# Altium footprint library Fedor's_pcb.PcbLib: 174 footprints (part 5 of 14)
Each footprint in its own frame and in the unit in brackets; x right, y up, seen from the top. Pads: shape width x height; smd on the part's side, far side on the other; paste and mask are expansions set on the pad; w line width, h text height; cw(c..) or ccw(c..) is an arc to the next point about the centre after c.
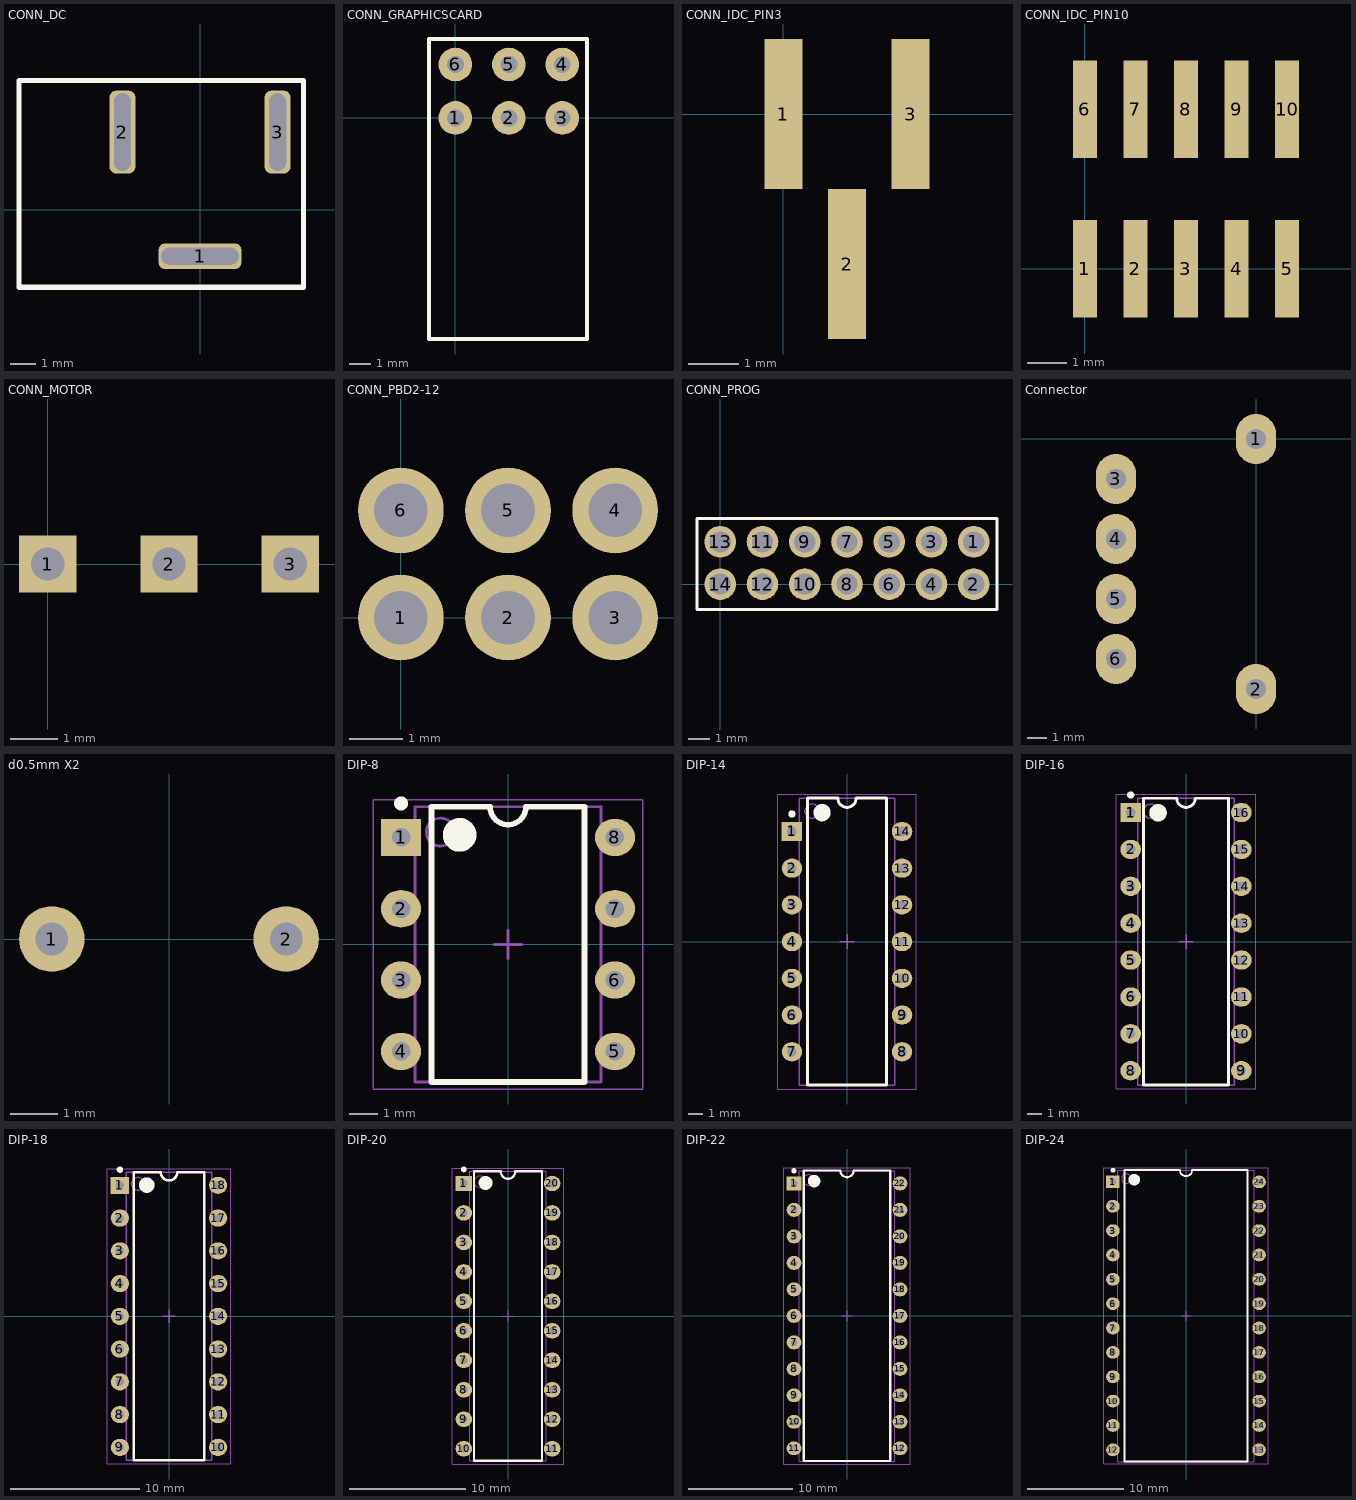
[diagram p4: the footprints below, top view; thin cyan lines are the x and y axes]

## CONN_DC [mm] "DJK-02A"
pads (3):
  rrect50% 3.2x1 hole 0.65 slot 3 at 0 deg mask+0.04: 1(0,-1.8)
  rrect50% 1x3.2 hole 0.65 slot 3 at 90 deg mask+0.04: 2(-3,3) 3(3,3)
Top Overlay:
  lines w0.2: -7,-3 4,-3 4,5 -7,5 -7,-3

## CONN_GRAPHICSCARD [mm]
pads (6):
  round 1.6 hole 0.8: 1(0,0) 2(2.54,0) 3(5.08,0) 4(5.08,2.54) 5(2.54,2.54) 6(0,2.54)
Top Overlay:
  lines w0.2: -1.25,-10.5 6.25,-10.5 6.25,3.75 -1.25,3.75 -1.25,-10.5

## CONN_IDC_PIN3 [mm]
pads (3):
  rect 0.76x3 smd paste-2539.97 mask+0.07: 1(0,0) 2(1.27,-3) 3(2.54,0)
3D body "DS1031-03-1_3P8BS41-3A.stp": height 6.5, standoff 0, extent -0.61,-4.4 3.2,1.3

## CONN_IDC_PIN10 [mm]
pads (10):
  rect 0.6x2.45 smd paste-2539.97 mask+0.07: 1(0,0) 2(1.27,0) 3(2.54,0) 4(3.81,0) 5(5.08,0) 6(0,4) 7(1.27,4) 8(2.54,4) 9(3.81,4) 10(5.08,4)
3D body "DS1031-08-2_5P8BS41-3A.stp": height 6.45, standoff -0.05, extent -0.575,-0.7 5.775,5

## CONN_MOTOR [mm]
pads (3):
  rect 1.2x1.2 hole 0.7 paste-2539.97 mask+0.07: 1(0,0) 2(2.54,0) 3(5.08,0)

## CONN_PBD2-12 [mm] "ds1026-05-2*6s8bv"
pads (6):
  round 1.6 hole 1: 1(0,0) 2(2,0) 3(4,0) 4(4,2) 5(2,2) 6(0,2)

## CONN_PROG [mm]
pads (14):
  round 1.5 hole 1 mask+0.07: 1(12,2) 2(12,0) 3(10,2) 4(10,0) 5(8,2) 6(8,0) 7(6,2) 8(6,0) 9(4,2) 10(4,0) 11(2,2) 12(2,0) 13(0,2) 14(0,0)
Top Overlay:
  lines w0.15: -1.1,-1.2 -1.1,3.1 13.1,3.1 13.1,-1.2 -1.1,-1.2

## Connector [mm]
pads (6):
  oval 2x2.5 hole 1: 1(0,0) 2(0,-12.5) 3(-7,-2) 4(-7,-5) 5(-7,-8) 6(-7,-11)

## d0.5mm X2 [mm]
pads (2):
  round 1.4 hole 0.7 paste-2539.97 mask+0.07: 1(-2.5,0) 2(2.5,0)
3D body: height 5, standoff -1, extent -3.2,-1.4 2.8,1.6

## DIP-8 [mm] "8-pin plastic DIP (DIP-8P-M02)"
height 4.36
pads (8):
  rect 1.42x1.32 hole 0.66: 1(-3.81,3.81)
  oval 1.42x1.32 hole 0.66: 2(-3.81,1.27) 3(-3.81,-1.27) 4(-3.81,-3.81) 5(3.81,-3.81) 6(3.81,-1.27) 7(3.81,1.27) 8(3.81,3.81)
Top Overlay:
  circle w0.25: c-3.81,5.02 r0.125
  circle w0.6: c-1.725,3.9 r0.3
  lines w0.2: -2.725,-4.9 -2.725,4.9 -0.635,4.9 ccw(c0,4.9) 0.635,4.9 2.725,4.9 2.725,-4.9 -2.725,-4.9
Mechanical 13:
  circle w0.1: c-2.41,4 r0.5
  lines w0.1: -3.31,-4.9 -3.31,4.9 3.31,4.9 3.31,-4.9 -3.31,-4.9
Mechanical 15:
  lines w0.05: -4.8,-5.15 -4.8,5.15 4.8,5.15 4.8,-5.15 -4.8,-5.15
  lines w0.1: -0.5,0 0.5,0 ; 0,-0.5 0,0.5
3D body: height 2.34, standoff 0, extent -3.909,3.43 -3.711,4.19
3D body: height 2.54, standoff 2.34, extent -3.909,3.43 -3.31,4.19
3D body: height 0, standoff -1.6, extent -3.909,3.546 -3.711,4.074
3D body: height 2.34, standoff 0, extent -3.909,0.89 -3.711,1.65
3D body: height 2.54, standoff 2.34, extent -3.909,0.89 -3.31,1.65
3D body: height 0, standoff -1.6, extent -3.909,1.006 -3.711,1.534
3D body: height 2.34, standoff 0, extent -3.909,-1.65 -3.711,-0.89
3D body: height 2.54, standoff 2.34, extent -3.909,-1.65 -3.31,-0.89
3D body: height 0, standoff -1.6, extent -3.909,-1.534 -3.711,-1.006
3D body: height 2.34, standoff 0, extent -3.909,-4.19 -3.711,-3.43
3D body: height 2.54, standoff 2.34, extent -3.909,-4.19 -3.31,-3.43
3D body: height 0, standoff -1.6, extent -3.909,-4.074 -3.711,-3.546
3D body: height 2.34, standoff 0, extent 3.711,-4.19 3.909,-3.43
3D body: height 2.54, standoff 2.34, extent 3.31,-4.19 3.909,-3.43
3D body: height 0, standoff -1.6, extent 3.711,-4.074 3.909,-3.546
3D body: height 2.34, standoff 0, extent 3.711,-1.65 3.909,-0.89
3D body: height 2.54, standoff 2.34, extent 3.31,-1.65 3.909,-0.89
3D body: height 0, standoff -1.6, extent 3.711,-1.534 3.909,-1.006
3D body: height 2.34, standoff 0, extent 3.711,0.89 3.909,1.65
3D body: height 2.54, standoff 2.34, extent 3.31,0.89 3.909,1.65
3D body: height 0, standoff -1.6, extent 3.711,1.006 3.909,1.534
3D body: height 2.34, standoff 0, extent 3.711,3.43 3.909,4.19
3D body: height 2.54, standoff 2.34, extent 3.31,3.43 3.909,4.19
3D body: height 0, standoff -1.6, extent 3.711,3.546 3.909,4.074
3D body: height 4.36, standoff 0.51, extent -3.31,-4.9 3.31,4.9

## DIP-14 [mm] "14-pin plastic DIP (DIP-14P-M02)"
height 4.36
pads (14):
  rect 1.42x1.32 hole 0.66: 1(-3.81,7.62)
  oval 1.42x1.32 hole 0.66: 2(-3.81,5.08) 3(-3.81,2.54) 4(-3.81,0) 5(-3.81,-2.54) 6(-3.81,-5.08) 7(-3.81,-7.62) 8(3.81,-7.62) 9(3.81,-5.08) 10(3.81,-2.54) 11(3.81,0) 12(3.81,2.54) 13(3.81,5.08) 14(3.81,7.62)
Top Overlay:
  circle w0.25: c-3.81,8.83 r0.125
  circle w0.6: c-1.725,8.925 r0.3
  lines w0.2: -2.725,-9.925 -2.725,9.925 -0.635,9.925 ccw(c0,9.925) 0.635,9.925 2.725,9.925 2.725,-9.925 -2.725,-9.925
Mechanical 13:
  circle w0.1: c-2.41,9.025 r0.5
  lines w0.1: -3.31,-9.925 -3.31,9.925 3.31,9.925 3.31,-9.925 -3.31,-9.925
Mechanical 15:
  lines w0.05: -4.8,-10.2 -4.8,10.2 4.8,10.2 4.8,-10.2 -4.8,-10.2
  lines w0.1: -0.5,0 0.5,0 ; 0,-0.5 0,0.5
3D body: height 2.34, standoff 0, extent -3.909,7.24 -3.711,8
3D body: height 2.54, standoff 2.34, extent -3.909,7.24 -3.31,8
3D body: height 0, standoff -1.6, extent -3.909,7.356 -3.711,7.884
3D body: height 2.34, standoff 0, extent -3.909,4.7 -3.711,5.46
3D body: height 2.54, standoff 2.34, extent -3.909,4.7 -3.31,5.46
3D body: height 0, standoff -1.6, extent -3.909,4.816 -3.711,5.344
3D body: height 2.34, standoff 0, extent -3.909,2.16 -3.711,2.92
3D body: height 2.54, standoff 2.34, extent -3.909,2.16 -3.31,2.92
3D body: height 0, standoff -1.6, extent -3.909,2.276 -3.711,2.804
3D body: height 2.34, standoff 0, extent -3.909,-0.38 -3.711,0.38
3D body: height 2.54, standoff 2.34, extent -3.909,-0.38 -3.31,0.38
3D body: height 0, standoff -1.6, extent -3.909,-0.264 -3.711,0.264
3D body: height 2.34, standoff 0, extent -3.909,-2.92 -3.711,-2.16
3D body: height 2.54, standoff 2.34, extent -3.909,-2.92 -3.31,-2.16
3D body: height 0, standoff -1.6, extent -3.909,-2.804 -3.711,-2.276
3D body: height 2.34, standoff 0, extent -3.909,-5.46 -3.711,-4.7
3D body: height 2.54, standoff 2.34, extent -3.909,-5.46 -3.31,-4.7
3D body: height 0, standoff -1.6, extent -3.909,-5.344 -3.711,-4.816
3D body: height 2.34, standoff 0, extent -3.909,-8 -3.711,-7.24
3D body: height 2.54, standoff 2.34, extent -3.909,-8 -3.31,-7.24
3D body: height 0, standoff -1.6, extent -3.909,-7.884 -3.711,-7.356
3D body: height 2.34, standoff 0, extent 3.711,-8 3.909,-7.24
3D body: height 2.54, standoff 2.34, extent 3.31,-8 3.909,-7.24
3D body: height 0, standoff -1.6, extent 3.711,-7.884 3.909,-7.356
3D body: height 2.34, standoff 0, extent 3.711,-5.46 3.909,-4.7
3D body: height 2.54, standoff 2.34, extent 3.31,-5.46 3.909,-4.7
3D body: height 0, standoff -1.6, extent 3.711,-5.344 3.909,-4.816
3D body: height 2.34, standoff 0, extent 3.711,-2.92 3.909,-2.16
3D body: height 2.54, standoff 2.34, extent 3.31,-2.92 3.909,-2.16
3D body: height 0, standoff -1.6, extent 3.711,-2.804 3.909,-2.276
3D body: height 2.34, standoff 0, extent 3.711,-0.38 3.909,0.38
3D body: height 2.54, standoff 2.34, extent 3.31,-0.38 3.909,0.38
3D body: height 0, standoff -1.6, extent 3.711,-0.264 3.909,0.264
3D body: height 2.34, standoff 0, extent 3.711,2.16 3.909,2.92
3D body: height 2.54, standoff 2.34, extent 3.31,2.16 3.909,2.92
3D body: height 0, standoff -1.6, extent 3.711,2.276 3.909,2.804
3D body: height 2.34, standoff 0, extent 3.711,4.7 3.909,5.46
3D body: height 2.54, standoff 2.34, extent 3.31,4.7 3.909,5.46
3D body: height 0, standoff -1.6, extent 3.711,4.816 3.909,5.344
3D body: height 2.34, standoff 0, extent 3.711,7.24 3.909,8
3D body: height 2.54, standoff 2.34, extent 3.31,7.24 3.909,8
3D body: height 0, standoff -1.6, extent 3.711,7.356 3.909,7.884
3D body: height 4.36, standoff 0.51, extent -3.31,-9.925 3.31,9.925

## DIP-16 [mm] "16-pin plastic DIP (DIP-16P-M02)"
height 4.65
pads (16):
  rect 1.42x1.32 hole 0.66: 1(-3.81,8.89)
  oval 1.42x1.32 hole 0.66: 2(-3.81,6.35) 3(-3.81,3.81) 4(-3.81,1.27) 5(-3.81,-1.27) 6(-3.81,-3.81) 7(-3.81,-6.35) 8(-3.81,-8.89) 9(3.81,-8.89) 10(3.81,-6.35) 11(3.81,-3.81) 12(3.81,-1.27) 13(3.81,1.27) 14(3.81,3.81) 15(3.81,6.35) 16(3.81,8.89)
Top Overlay:
  circle w0.25: c-3.81,10.1 r0.125
  circle w0.6: c-1.925,8.875 r0.3
  lines w0.2: -2.925,-9.875 -2.925,9.875 -0.635,9.875 ccw(c0,9.875) 0.635,9.875 2.925,9.875 2.925,-9.875 -2.925,-9.875
Mechanical 13:
  circle w0.1: c-2.41,8.975 r0.5
  lines w0.1: -3.31,-9.875 -3.31,9.875 3.31,9.875 3.31,-9.875 -3.31,-9.875
Mechanical 15:
  lines w0.05: -4.8,-10.15 -4.8,10.15 4.8,10.15 4.8,-10.15 -4.8,-10.15
  lines w0.1: -0.5,0 0.5,0 ; 0,-0.5 0,0.5
3D body: height 2.49, standoff 0, extent -3.909,8.51 -3.711,9.27
3D body: height 2.68, standoff 2.48, extent -3.909,8.51 -3.31,9.27
3D body: height 0, standoff -1.6, extent -3.909,8.626 -3.711,9.154
3D body: height 2.49, standoff 0, extent -3.909,5.97 -3.711,6.73
3D body: height 2.68, standoff 2.48, extent -3.909,5.97 -3.31,6.73
3D body: height 0, standoff -1.6, extent -3.909,6.086 -3.711,6.614
3D body: height 2.49, standoff 0, extent -3.909,3.43 -3.711,4.19
3D body: height 2.68, standoff 2.48, extent -3.909,3.43 -3.31,4.19
3D body: height 0, standoff -1.6, extent -3.909,3.546 -3.711,4.074
3D body: height 2.49, standoff 0, extent -3.909,0.89 -3.711,1.65
3D body: height 2.68, standoff 2.48, extent -3.909,0.89 -3.31,1.65
3D body: height 0, standoff -1.6, extent -3.909,1.006 -3.711,1.534
3D body: height 2.49, standoff 0, extent -3.909,-1.65 -3.711,-0.89
3D body: height 2.68, standoff 2.48, extent -3.909,-1.65 -3.31,-0.89
3D body: height 0, standoff -1.6, extent -3.909,-1.534 -3.711,-1.006
3D body: height 2.49, standoff 0, extent -3.909,-4.19 -3.711,-3.43
3D body: height 2.68, standoff 2.48, extent -3.909,-4.19 -3.31,-3.43
3D body: height 0, standoff -1.6, extent -3.909,-4.074 -3.711,-3.546
3D body: height 2.49, standoff 0, extent -3.909,-6.73 -3.711,-5.97
3D body: height 2.68, standoff 2.48, extent -3.909,-6.73 -3.31,-5.97
3D body: height 0, standoff -1.6, extent -3.909,-6.614 -3.711,-6.086
3D body: height 2.49, standoff 0, extent -3.909,-9.27 -3.711,-8.51
3D body: height 2.68, standoff 2.48, extent -3.909,-9.27 -3.31,-8.51
3D body: height 0, standoff -1.6, extent -3.909,-9.154 -3.711,-8.626
3D body: height 2.49, standoff 0, extent 3.711,-9.27 3.909,-8.51
3D body: height 2.68, standoff 2.48, extent 3.31,-9.27 3.909,-8.51
3D body: height 0, standoff -1.6, extent 3.711,-9.154 3.909,-8.626
3D body: height 2.49, standoff 0, extent 3.711,-6.73 3.909,-5.97
3D body: height 2.68, standoff 2.48, extent 3.31,-6.73 3.909,-5.97
3D body: height 0, standoff -1.6, extent 3.711,-6.614 3.909,-6.086
3D body: height 2.49, standoff 0, extent 3.711,-4.19 3.909,-3.43
3D body: height 2.68, standoff 2.48, extent 3.31,-4.19 3.909,-3.43
3D body: height 0, standoff -1.6, extent 3.711,-4.074 3.909,-3.546
3D body: height 2.49, standoff 0, extent 3.711,-1.65 3.909,-0.89
3D body: height 2.68, standoff 2.48, extent 3.31,-1.65 3.909,-0.89
3D body: height 0, standoff -1.6, extent 3.711,-1.534 3.909,-1.006
3D body: height 2.49, standoff 0, extent 3.711,0.89 3.909,1.65
3D body: height 2.68, standoff 2.48, extent 3.31,0.89 3.909,1.65
3D body: height 0, standoff -1.6, extent 3.711,1.006 3.909,1.534
3D body: height 2.49, standoff 0, extent 3.711,3.43 3.909,4.19
3D body: height 2.68, standoff 2.48, extent 3.31,3.43 3.909,4.19
3D body: height 0, standoff -1.6, extent 3.711,3.546 3.909,4.074
3D body: height 2.49, standoff 0, extent 3.711,5.97 3.909,6.73
3D body: height 2.68, standoff 2.48, extent 3.31,5.97 3.909,6.73
3D body: height 0, standoff -1.6, extent 3.711,6.086 3.909,6.614
3D body: height 2.49, standoff 0, extent 3.711,8.51 3.909,9.27
3D body: height 2.68, standoff 2.48, extent 3.31,8.51 3.909,9.27
3D body: height 0, standoff -1.6, extent 3.711,8.626 3.909,9.154
3D body: height 4.65, standoff 0.51, extent -3.31,-9.875 3.31,9.875

## DIP-18 [mm] "18-pin plastic DIP (DIP-18P-M02)"
height 5
pads (18):
  rect 1.42x1.32 hole 0.66: 1(-3.81,10.16)
  oval 1.42x1.32 hole 0.66: 2(-3.81,7.62) 3(-3.81,5.08) 4(-3.81,2.54) 5(-3.81,0) 6(-3.81,-2.54) 7(-3.81,-5.08) 8(-3.81,-7.62) 9(-3.81,-10.16) 10(3.81,-10.16) 11(3.81,-7.62) 12(3.81,-5.08) 13(3.81,-2.54) 14(3.81,0) 15(3.81,2.54) 16(3.81,5.08) 17(3.81,7.62) 18(3.81,10.16)
Top Overlay:
  circle w0.25: c-3.81,11.37 r0.125
  circle w0.6: c-1.725,10.175 r0.3
  lines w0.2: -2.725,-11.175 -2.725,11.175 -0.635,11.175 ccw(c0,11.175) 0.635,11.175 2.725,11.175 2.725,-11.175 -2.725,-11.175
Mechanical 13:
  circle w0.1: c-2.41,10.275 r0.5
  lines w0.1: -3.31,-11.175 -3.31,11.175 3.31,11.175 3.31,-11.175 -3.31,-11.175
Mechanical 15:
  lines w0.05: -4.8,-11.45 -4.8,11.45 4.8,11.45 4.8,-11.45 -4.8,-11.45
  lines w0.1: -0.5,0 0.5,0 ; 0,-0.5 0,0.5
3D body: height 2.66, standoff 0, extent -3.909,9.78 -3.711,10.54
3D body: height 2.86, standoff 2.66, extent -3.909,9.78 -3.31,10.54
3D body: height 0, standoff -1.6, extent -3.909,9.896 -3.711,10.424
3D body: height 2.66, standoff 0, extent -3.909,7.24 -3.711,8
3D body: height 2.86, standoff 2.66, extent -3.909,7.24 -3.31,8
3D body: height 0, standoff -1.6, extent -3.909,7.356 -3.711,7.884
3D body: height 2.66, standoff 0, extent -3.909,4.7 -3.711,5.46
3D body: height 2.86, standoff 2.66, extent -3.909,4.7 -3.31,5.46
3D body: height 0, standoff -1.6, extent -3.909,4.816 -3.711,5.344
3D body: height 2.66, standoff 0, extent -3.909,2.16 -3.711,2.92
3D body: height 2.86, standoff 2.66, extent -3.909,2.16 -3.31,2.92
3D body: height 0, standoff -1.6, extent -3.909,2.276 -3.711,2.804
3D body: height 2.66, standoff 0, extent -3.909,-0.38 -3.711,0.38
3D body: height 2.86, standoff 2.66, extent -3.909,-0.38 -3.31,0.38
3D body: height 0, standoff -1.6, extent -3.909,-0.264 -3.711,0.264
3D body: height 2.66, standoff 0, extent -3.909,-2.92 -3.711,-2.16
3D body: height 2.86, standoff 2.66, extent -3.909,-2.92 -3.31,-2.16
3D body: height 0, standoff -1.6, extent -3.909,-2.804 -3.711,-2.276
3D body: height 2.66, standoff 0, extent -3.909,-5.46 -3.711,-4.7
3D body: height 2.86, standoff 2.66, extent -3.909,-5.46 -3.31,-4.7
3D body: height 0, standoff -1.6, extent -3.909,-5.344 -3.711,-4.816
3D body: height 2.66, standoff 0, extent -3.909,-8 -3.711,-7.24
3D body: height 2.86, standoff 2.66, extent -3.909,-8 -3.31,-7.24
3D body: height 0, standoff -1.6, extent -3.909,-7.884 -3.711,-7.356
3D body: height 2.66, standoff 0, extent -3.909,-10.54 -3.711,-9.78
3D body: height 2.86, standoff 2.66, extent -3.909,-10.54 -3.31,-9.78
3D body: height 0, standoff -1.6, extent -3.909,-10.424 -3.711,-9.896
3D body: height 2.66, standoff 0, extent 3.711,-10.54 3.909,-9.78
3D body: height 2.86, standoff 2.66, extent 3.31,-10.54 3.909,-9.78
3D body: height 0, standoff -1.6, extent 3.711,-10.424 3.909,-9.896
3D body: height 2.66, standoff 0, extent 3.711,-8 3.909,-7.24
3D body: height 2.86, standoff 2.66, extent 3.31,-8 3.909,-7.24
3D body: height 0, standoff -1.6, extent 3.711,-7.884 3.909,-7.356
3D body: height 2.66, standoff 0, extent 3.711,-5.46 3.909,-4.7
3D body: height 2.86, standoff 2.66, extent 3.31,-5.46 3.909,-4.7
3D body: height 0, standoff -1.6, extent 3.711,-5.344 3.909,-4.816
3D body: height 2.66, standoff 0, extent 3.711,-2.92 3.909,-2.16
3D body: height 2.86, standoff 2.66, extent 3.31,-2.92 3.909,-2.16
3D body: height 0, standoff -1.6, extent 3.711,-2.804 3.909,-2.276
3D body: height 2.66, standoff 0, extent 3.711,-0.38 3.909,0.38
3D body: height 2.86, standoff 2.66, extent 3.31,-0.38 3.909,0.38
3D body: height 0, standoff -1.6, extent 3.711,-0.264 3.909,0.264
3D body: height 2.66, standoff 0, extent 3.711,2.16 3.909,2.92
3D body: height 2.86, standoff 2.66, extent 3.31,2.16 3.909,2.92
3D body: height 0, standoff -1.6, extent 3.711,2.276 3.909,2.804
3D body: height 2.66, standoff 0, extent 3.711,4.7 3.909,5.46
3D body: height 2.86, standoff 2.66, extent 3.31,4.7 3.909,5.46
3D body: height 0, standoff -1.6, extent 3.711,4.816 3.909,5.344
3D body: height 2.66, standoff 0, extent 3.711,7.24 3.909,8
3D body: height 2.86, standoff 2.66, extent 3.31,7.24 3.909,8
3D body: height 0, standoff -1.6, extent 3.711,7.356 3.909,7.884
3D body: height 2.66, standoff 0, extent 3.711,9.78 3.909,10.54
3D body: height 2.86, standoff 2.66, extent 3.31,9.78 3.909,10.54
3D body: height 0, standoff -1.6, extent 3.711,9.896 3.909,10.424
3D body: height 5, standoff 0.51, extent -3.31,-11.175 3.31,11.175

## DIP-20 [mm] "20-pin plastic DIP (DIP-20P-M02)"
height 4.36
pads (20):
  rect 1.42x1.32 hole 0.66: 1(-3.81,11.43)
  oval 1.42x1.32 hole 0.66: 2(-3.81,8.89) 3(-3.81,6.35) 4(-3.81,3.81) 5(-3.81,1.27) 6(-3.81,-1.27) 7(-3.81,-3.81) 8(-3.81,-6.35) 9(-3.81,-8.89) 10(-3.81,-11.43) 11(3.81,-11.43) 12(3.81,-8.89) 13(3.81,-6.35) 14(3.81,-3.81) 15(3.81,-1.27) 16(3.81,1.27) 17(3.81,3.81) 18(3.81,6.35) 19(3.81,8.89) 20(3.81,11.43)
Top Overlay:
  circle w0.25: c-3.81,12.64 r0.125
  circle w0.6: c-1.925,11.47 r0.3
  lines w0.2: -2.925,-12.47 -2.925,12.47 -0.635,12.47 ccw(c0,12.47) 0.635,12.47 2.925,12.47 2.925,-12.47 -2.925,-12.47
Mechanical 13:
  circle w0.1: c-2.41,11.57 r0.5
  lines w0.1: -3.31,-12.47 -3.31,12.47 3.31,12.47 3.31,-12.47 -3.31,-12.47
Mechanical 15:
  lines w0.05: -4.8,-12.75 -4.8,12.75 4.8,12.75 4.8,-12.75 -4.8,-12.75
  lines w0.1: -0.5,0 0.5,0 ; 0,-0.5 0,0.5
3D body: height 2.34, standoff 0, extent -3.909,11.05 -3.711,11.81
3D body: height 2.54, standoff 2.34, extent -3.909,11.05 -3.31,11.81
3D body: height 0, standoff -1.6, extent -3.909,11.166 -3.711,11.694
3D body: height 2.34, standoff 0, extent -3.909,8.51 -3.711,9.27
3D body: height 2.54, standoff 2.34, extent -3.909,8.51 -3.31,9.27
3D body: height 0, standoff -1.6, extent -3.909,8.626 -3.711,9.154
3D body: height 2.34, standoff 0, extent -3.909,5.97 -3.711,6.73
3D body: height 2.54, standoff 2.34, extent -3.909,5.97 -3.31,6.73
3D body: height 0, standoff -1.6, extent -3.909,6.086 -3.711,6.614
3D body: height 2.34, standoff 0, extent -3.909,3.43 -3.711,4.19
3D body: height 2.54, standoff 2.34, extent -3.909,3.43 -3.31,4.19
3D body: height 0, standoff -1.6, extent -3.909,3.546 -3.711,4.074
3D body: height 2.34, standoff 0, extent -3.909,0.89 -3.711,1.65
3D body: height 2.54, standoff 2.34, extent -3.909,0.89 -3.31,1.65
3D body: height 0, standoff -1.6, extent -3.909,1.006 -3.711,1.534
3D body: height 2.34, standoff 0, extent -3.909,-1.65 -3.711,-0.89
3D body: height 2.54, standoff 2.34, extent -3.909,-1.65 -3.31,-0.89
3D body: height 0, standoff -1.6, extent -3.909,-1.534 -3.711,-1.006
3D body: height 2.34, standoff 0, extent -3.909,-4.19 -3.711,-3.43
3D body: height 2.54, standoff 2.34, extent -3.909,-4.19 -3.31,-3.43
3D body: height 0, standoff -1.6, extent -3.909,-4.074 -3.711,-3.546
3D body: height 2.34, standoff 0, extent -3.909,-6.73 -3.711,-5.97
3D body: height 2.54, standoff 2.34, extent -3.909,-6.73 -3.31,-5.97
3D body: height 0, standoff -1.6, extent -3.909,-6.614 -3.711,-6.086
3D body: height 2.34, standoff 0, extent -3.909,-9.27 -3.711,-8.51
3D body: height 2.54, standoff 2.34, extent -3.909,-9.27 -3.31,-8.51
3D body: height 0, standoff -1.6, extent -3.909,-9.154 -3.711,-8.626
3D body: height 2.34, standoff 0, extent -3.909,-11.81 -3.711,-11.05
3D body: height 2.54, standoff 2.34, extent -3.909,-11.81 -3.31,-11.05
3D body: height 0, standoff -1.6, extent -3.909,-11.694 -3.711,-11.166
3D body: height 2.34, standoff 0, extent 3.711,-11.81 3.909,-11.05
3D body: height 2.54, standoff 2.34, extent 3.31,-11.81 3.909,-11.05
3D body: height 0, standoff -1.6, extent 3.711,-11.694 3.909,-11.166
3D body: height 2.34, standoff 0, extent 3.711,-9.27 3.909,-8.51
3D body: height 2.54, standoff 2.34, extent 3.31,-9.27 3.909,-8.51
3D body: height 0, standoff -1.6, extent 3.711,-9.154 3.909,-8.626
3D body: height 2.34, standoff 0, extent 3.711,-6.73 3.909,-5.97
3D body: height 2.54, standoff 2.34, extent 3.31,-6.73 3.909,-5.97
3D body: height 0, standoff -1.6, extent 3.711,-6.614 3.909,-6.086
3D body: height 2.34, standoff 0, extent 3.711,-4.19 3.909,-3.43
3D body: height 2.54, standoff 2.34, extent 3.31,-4.19 3.909,-3.43
3D body: height 0, standoff -1.6, extent 3.711,-4.074 3.909,-3.546
3D body: height 2.34, standoff 0, extent 3.711,-1.65 3.909,-0.89
3D body: height 2.54, standoff 2.34, extent 3.31,-1.65 3.909,-0.89
3D body: height 0, standoff -1.6, extent 3.711,-1.534 3.909,-1.006
3D body: height 2.34, standoff 0, extent 3.711,0.89 3.909,1.65
3D body: height 2.54, standoff 2.34, extent 3.31,0.89 3.909,1.65
3D body: height 0, standoff -1.6, extent 3.711,1.006 3.909,1.534
3D body: height 2.34, standoff 0, extent 3.711,3.43 3.909,4.19
3D body: height 2.54, standoff 2.34, extent 3.31,3.43 3.909,4.19
3D body: height 0, standoff -1.6, extent 3.711,3.546 3.909,4.074
3D body: height 2.34, standoff 0, extent 3.711,5.97 3.909,6.73
3D body: height 2.54, standoff 2.34, extent 3.31,5.97 3.909,6.73
3D body: height 0, standoff -1.6, extent 3.711,6.086 3.909,6.614
3D body: height 2.34, standoff 0, extent 3.711,8.51 3.909,9.27
3D body: height 2.54, standoff 2.34, extent 3.31,8.51 3.909,9.27
3D body: height 0, standoff -1.6, extent 3.711,8.626 3.909,9.154
3D body: height 2.34, standoff 0, extent 3.711,11.05 3.909,11.81
3D body: height 2.54, standoff 2.34, extent 3.31,11.05 3.909,11.81
3D body: height 0, standoff -1.6, extent 3.711,11.166 3.909,11.694
3D body: height 4.36, standoff 0.51, extent -3.31,-12.47 3.31,12.47

## DIP-22 [mm] "22-pin plastic DIP (DIP-22P-M02)"
height 5
pads (22):
  rect 1.42x1.32 hole 0.66: 1(-5.08,12.7)
  oval 1.42x1.32 hole 0.66: 2(-5.08,10.16) 3(-5.08,7.62) 4(-5.08,5.08) 5(-5.08,2.54) 6(-5.08,0) 7(-5.08,-2.54) 8(-5.08,-5.08) 9(-5.08,-7.62) 10(-5.08,-10.16) 11(-5.08,-12.7) 12(5.08,-12.7) 13(5.08,-10.16) 14(5.08,-7.62) 15(5.08,-5.08) 16(5.08,-2.54) 17(5.08,0) 18(5.08,2.54) 19(5.08,5.08) 20(5.08,7.62) 21(5.08,10.16) 22(5.08,12.7)
Top Overlay:
  circle w0.25: c-5.08,13.91 r0.125
  circle w0.6: c-3.15,12.925 r0.3
  lines w0.2: -4.15,-13.925 -4.15,13.925 -0.635,13.925 ccw(c0,13.925) 0.635,13.925 4.15,13.925 4.15,-13.925 -4.15,-13.925
Mechanical 13:
  circle w0.1: c-3.68,13.025 r0.5
  lines w0.1: -4.58,-13.925 -4.58,13.925 4.58,13.925 4.58,-13.925 -4.58,-13.925
Mechanical 15:
  lines w0.05: -6.05,-14.2 -6.05,14.2 6.05,14.2 6.05,-14.2 -6.05,-14.2
  lines w0.1: -0.5,0 0.5,0 ; 0,-0.5 0,0.5
3D body: height 2.66, standoff 0, extent -5.179,12.32 -4.981,13.08
3D body: height 2.86, standoff 2.66, extent -5.179,12.32 -4.58,13.08
3D body: height 0, standoff -1.6, extent -5.179,12.436 -4.981,12.964
3D body: height 2.66, standoff 0, extent -5.179,9.78 -4.981,10.54
3D body: height 2.86, standoff 2.66, extent -5.179,9.78 -4.58,10.54
3D body: height 0, standoff -1.6, extent -5.179,9.896 -4.981,10.424
3D body: height 2.66, standoff 0, extent -5.179,7.24 -4.981,8
3D body: height 2.86, standoff 2.66, extent -5.179,7.24 -4.58,8
3D body: height 0, standoff -1.6, extent -5.179,7.356 -4.981,7.884
3D body: height 2.66, standoff 0, extent -5.179,4.7 -4.981,5.46
3D body: height 2.86, standoff 2.66, extent -5.179,4.7 -4.58,5.46
3D body: height 0, standoff -1.6, extent -5.179,4.816 -4.981,5.344
3D body: height 2.66, standoff 0, extent -5.179,2.16 -4.981,2.92
3D body: height 2.86, standoff 2.66, extent -5.179,2.16 -4.58,2.92
3D body: height 0, standoff -1.6, extent -5.179,2.276 -4.981,2.804
3D body: height 2.66, standoff 0, extent -5.179,-0.38 -4.981,0.38
3D body: height 2.86, standoff 2.66, extent -5.179,-0.38 -4.58,0.38
3D body: height 0, standoff -1.6, extent -5.179,-0.264 -4.981,0.264
3D body: height 2.66, standoff 0, extent -5.179,-2.92 -4.981,-2.16
3D body: height 2.86, standoff 2.66, extent -5.179,-2.92 -4.58,-2.16
3D body: height 0, standoff -1.6, extent -5.179,-2.804 -4.981,-2.276
3D body: height 2.66, standoff 0, extent -5.179,-5.46 -4.981,-4.7
3D body: height 2.86, standoff 2.66, extent -5.179,-5.46 -4.58,-4.7
3D body: height 0, standoff -1.6, extent -5.179,-5.344 -4.981,-4.816
3D body: height 2.66, standoff 0, extent -5.179,-8 -4.981,-7.24
3D body: height 2.86, standoff 2.66, extent -5.179,-8 -4.58,-7.24
3D body: height 0, standoff -1.6, extent -5.179,-7.884 -4.981,-7.356
3D body: height 2.66, standoff 0, extent -5.179,-10.54 -4.981,-9.78
3D body: height 2.86, standoff 2.66, extent -5.179,-10.54 -4.58,-9.78
3D body: height 0, standoff -1.6, extent -5.179,-10.424 -4.981,-9.896
3D body: height 2.66, standoff 0, extent -5.179,-13.08 -4.981,-12.32
3D body: height 2.86, standoff 2.66, extent -5.179,-13.08 -4.58,-12.32
3D body: height 0, standoff -1.6, extent -5.179,-12.964 -4.981,-12.436
3D body: height 2.66, standoff 0, extent 4.981,-13.08 5.179,-12.32
3D body: height 2.86, standoff 2.66, extent 4.58,-13.08 5.179,-12.32
3D body: height 0, standoff -1.6, extent 4.981,-12.964 5.179,-12.436
3D body: height 2.66, standoff 0, extent 4.981,-10.54 5.179,-9.78
3D body: height 2.86, standoff 2.66, extent 4.58,-10.54 5.179,-9.78
3D body: height 0, standoff -1.6, extent 4.981,-10.424 5.179,-9.896
3D body: height 2.66, standoff 0, extent 4.981,-8 5.179,-7.24
3D body: height 2.86, standoff 2.66, extent 4.58,-8 5.179,-7.24
3D body: height 0, standoff -1.6, extent 4.981,-7.884 5.179,-7.356
3D body: height 2.66, standoff 0, extent 4.981,-5.46 5.179,-4.7
3D body: height 2.86, standoff 2.66, extent 4.58,-5.46 5.179,-4.7
3D body: height 0, standoff -1.6, extent 4.981,-5.344 5.179,-4.816
3D body: height 2.66, standoff 0, extent 4.981,-2.92 5.179,-2.16
3D body: height 2.86, standoff 2.66, extent 4.58,-2.92 5.179,-2.16
3D body: height 0, standoff -1.6, extent 4.981,-2.804 5.179,-2.276
3D body: height 2.66, standoff 0, extent 4.981,-0.38 5.179,0.38
3D body: height 2.86, standoff 2.66, extent 4.58,-0.38 5.179,0.38
3D body: height 0, standoff -1.6, extent 4.981,-0.264 5.179,0.264
3D body: height 2.66, standoff 0, extent 4.981,2.16 5.179,2.92
3D body: height 2.86, standoff 2.66, extent 4.58,2.16 5.179,2.92
3D body: height 0, standoff -1.6, extent 4.981,2.276 5.179,2.804
3D body: height 2.66, standoff 0, extent 4.981,4.7 5.179,5.46
3D body: height 2.86, standoff 2.66, extent 4.58,4.7 5.179,5.46
3D body: height 0, standoff -1.6, extent 4.981,4.816 5.179,5.344
3D body: height 2.66, standoff 0, extent 4.981,7.24 5.179,8
3D body: height 2.86, standoff 2.66, extent 4.58,7.24 5.179,8
3D body: height 0, standoff -1.6, extent 4.981,7.356 5.179,7.884
3D body: height 2.66, standoff 0, extent 4.981,9.78 5.179,10.54
3D body: height 2.86, standoff 2.66, extent 4.58,9.78 5.179,10.54
3D body: height 0, standoff -1.6, extent 4.981,9.896 5.179,10.424
3D body: height 2.66, standoff 0, extent 4.981,12.32 5.179,13.08
3D body: height 2.86, standoff 2.66, extent 4.58,12.32 5.179,13.08
3D body: height 0, standoff -1.6, extent 4.981,12.436 5.179,12.964
3D body: height 5, standoff 0.51, extent -4.58,-13.925 4.58,13.925

## DIP-24 [mm] "24-pin plastic DIP (DIP-24P-M02)"
height 4.96
pads (24):
  rect 1.42x1.32 hole 0.66: 1(-7.62,13.97)
  oval 1.42x1.32 hole 0.66: 2(-7.62,11.43) 3(-7.62,8.89) 4(-7.62,6.35) 5(-7.62,3.81) 6(-7.62,1.27) 7(-7.62,-1.27) 8(-7.62,-3.81) 9(-7.62,-6.35) 10(-7.62,-8.89) 11(-7.62,-11.43) 12(-7.62,-13.97) 13(7.62,-13.97) 14(7.62,-11.43) 15(7.62,-8.89) 16(7.62,-6.35) 17(7.62,-3.81) 18(7.62,-1.27) 19(7.62,1.27) 20(7.62,3.81) 21(7.62,6.35) 22(7.62,8.89) 23(7.62,11.43) 24(7.62,13.97)
Top Overlay:
  circle w0.25: c-7.62,15.18 r0.125
  circle w0.6: c-5.4,14.2 r0.3
  lines w0.2: -6.4,-15.2 -6.4,15.2 -0.635,15.2 ccw(c0,15.2) 0.635,15.2 6.4,15.2 6.4,-15.2 -6.4,-15.2
Mechanical 13:
  circle w0.1: c-6.22,14.3 r0.5
  lines w0.1: -7.12,-15.2 -7.12,15.2 7.12,15.2 7.12,-15.2 -7.12,-15.2
Mechanical 15:
  lines w0.05: -8.6,-15.45 -8.6,15.45 8.6,15.45 8.6,-15.45 -8.6,-15.45
  lines w0.1: -0.5,0 0.5,0 ; 0,-0.5 0,0.5
3D body: height 2.64, standoff 0, extent -7.719,13.59 -7.521,14.35
3D body: height 2.84, standoff 2.64, extent -7.719,13.59 -7.12,14.35
3D body: height 0, standoff -1.6, extent -7.719,13.706 -7.521,14.234
3D body: height 2.64, standoff 0, extent -7.719,11.05 -7.521,11.81
3D body: height 2.84, standoff 2.64, extent -7.719,11.05 -7.12,11.81
3D body: height 0, standoff -1.6, extent -7.719,11.166 -7.521,11.694
3D body: height 2.64, standoff 0, extent -7.719,8.51 -7.521,9.27
3D body: height 2.84, standoff 2.64, extent -7.719,8.51 -7.12,9.27
3D body: height 0, standoff -1.6, extent -7.719,8.626 -7.521,9.154
3D body: height 2.64, standoff 0, extent -7.719,5.97 -7.521,6.73
3D body: height 2.84, standoff 2.64, extent -7.719,5.97 -7.12,6.73
3D body: height 0, standoff -1.6, extent -7.719,6.086 -7.521,6.614
3D body: height 2.64, standoff 0, extent -7.719,3.43 -7.521,4.19
3D body: height 2.84, standoff 2.64, extent -7.719,3.43 -7.12,4.19
3D body: height 0, standoff -1.6, extent -7.719,3.546 -7.521,4.074
3D body: height 2.64, standoff 0, extent -7.719,0.89 -7.521,1.65
3D body: height 2.84, standoff 2.64, extent -7.719,0.89 -7.12,1.65
3D body: height 0, standoff -1.6, extent -7.719,1.006 -7.521,1.534
3D body: height 2.64, standoff 0, extent -7.719,-1.65 -7.521,-0.89
3D body: height 2.84, standoff 2.64, extent -7.719,-1.65 -7.12,-0.89
3D body: height 0, standoff -1.6, extent -7.719,-1.534 -7.521,-1.006
3D body: height 2.64, standoff 0, extent -7.719,-4.19 -7.521,-3.43
3D body: height 2.84, standoff 2.64, extent -7.719,-4.19 -7.12,-3.43
3D body: height 0, standoff -1.6, extent -7.719,-4.074 -7.521,-3.546
3D body: height 2.64, standoff 0, extent -7.719,-6.73 -7.521,-5.97
3D body: height 2.84, standoff 2.64, extent -7.719,-6.73 -7.12,-5.97
3D body: height 0, standoff -1.6, extent -7.719,-6.614 -7.521,-6.086
3D body: height 2.64, standoff 0, extent -7.719,-9.27 -7.521,-8.51
3D body: height 2.84, standoff 2.64, extent -7.719,-9.27 -7.12,-8.51
3D body: height 0, standoff -1.6, extent -7.719,-9.154 -7.521,-8.626
3D body: height 2.64, standoff 0, extent -7.719,-11.81 -7.521,-11.05
3D body: height 2.84, standoff 2.64, extent -7.719,-11.81 -7.12,-11.05
3D body: height 0, standoff -1.6, extent -7.719,-11.694 -7.521,-11.166
3D body: height 2.64, standoff 0, extent -7.719,-14.35 -7.521,-13.59
3D body: height 2.84, standoff 2.64, extent -7.719,-14.35 -7.12,-13.59
3D body: height 0, standoff -1.6, extent -7.719,-14.234 -7.521,-13.706
3D body: height 2.64, standoff 0, extent 7.521,-14.35 7.719,-13.59
3D body: height 2.84, standoff 2.64, extent 7.12,-14.35 7.719,-13.59
3D body: height 0, standoff -1.6, extent 7.521,-14.234 7.719,-13.706
3D body: height 2.64, standoff 0, extent 7.521,-11.81 7.719,-11.05
3D body: height 2.84, standoff 2.64, extent 7.12,-11.81 7.719,-11.05
3D body: height 0, standoff -1.6, extent 7.521,-11.694 7.719,-11.166
3D body: height 2.64, standoff 0, extent 7.521,-9.27 7.719,-8.51
3D body: height 2.84, standoff 2.64, extent 7.12,-9.27 7.719,-8.51
3D body: height 0, standoff -1.6, extent 7.521,-9.154 7.719,-8.626
3D body: height 2.64, standoff 0, extent 7.521,-6.73 7.719,-5.97
3D body: height 2.84, standoff 2.64, extent 7.12,-6.73 7.719,-5.97
3D body: height 0, standoff -1.6, extent 7.521,-6.614 7.719,-6.086
3D body: height 2.64, standoff 0, extent 7.521,-4.19 7.719,-3.43
3D body: height 2.84, standoff 2.64, extent 7.12,-4.19 7.719,-3.43
3D body: height 0, standoff -1.6, extent 7.521,-4.074 7.719,-3.546
3D body: height 2.64, standoff 0, extent 7.521,-1.65 7.719,-0.89
3D body: height 2.84, standoff 2.64, extent 7.12,-1.65 7.719,-0.89
3D body: height 0, standoff -1.6, extent 7.521,-1.534 7.719,-1.006
3D body: height 2.64, standoff 0, extent 7.521,0.89 7.719,1.65
3D body: height 2.84, standoff 2.64, extent 7.12,0.89 7.719,1.65
3D body: height 0, standoff -1.6, extent 7.521,1.006 7.719,1.534
3D body: height 2.64, standoff 0, extent 7.521,3.43 7.719,4.19
3D body: height 2.84, standoff 2.64, extent 7.12,3.43 7.719,4.19
3D body: height 0, standoff -1.6, extent 7.521,3.546 7.719,4.074
3D body: height 2.64, standoff 0, extent 7.521,5.97 7.719,6.73
3D body: height 2.84, standoff 2.64, extent 7.12,5.97 7.719,6.73
3D body: height 0, standoff -1.6, extent 7.521,6.086 7.719,6.614
3D body: height 2.64, standoff 0, extent 7.521,8.51 7.719,9.27
3D body: height 2.84, standoff 2.64, extent 7.12,8.51 7.719,9.27
3D body: height 0, standoff -1.6, extent 7.521,8.626 7.719,9.154
3D body: height 2.64, standoff 0, extent 7.521,11.05 7.719,11.81
3D body: height 2.84, standoff 2.64, extent 7.12,11.05 7.719,11.81
3D body: height 0, standoff -1.6, extent 7.521,11.166 7.719,11.694
3D body: height 2.64, standoff 0, extent 7.521,13.59 7.719,14.35
3D body: height 2.84, standoff 2.64, extent 7.12,13.59 7.719,14.35
3D body: height 0, standoff -1.6, extent 7.521,13.706 7.719,14.234
3D body: height 4.96, standoff 0.51, extent -7.12,-15.2 7.12,15.2